# EAGLE library part ESP32-C6-DEVKITC-1-N8 (library Coert-Vonk)
Footprint of Espresiff ESP32-C6-DevKitC-1-N8 (ESP32-C6-WROOM-1-N8 ) Technical specifications: Manufacturer: Espressif SoC: ESP32-C6-WROOM-1-N8, 32-bit RISC-V, max 160 MHz Connectivity: 2.4G Wi-Fi 6, Bluetooth 5.3 LE, Zigbee 3.0 and Thread 1.3 USB-C connectors: UART0 via CP2102, Serial/JTAG Memory: 8 MB Flash, 512 kB SRAM, 320 kB ROM Mfr.#: ESP32-C6-DevKitC-1-N8, data sheet <https://mm.digikey.com/Volume0/opasdata/d220001/medias/docus/5528/ESP32-C6-DEVKITC-1-N8.pdf>, documentation <https://docs.espressif.com/projects/esp-dev-kits/en/latest/esp32c6/esp32-c6-devkitc-1/user_guide.html>, reference <https://documentation.espressif.com/esp32-c6_technical_reference_manual_en.pdf> DigiKey: 1965-ESP32-C6-DEVKITC-1-N8-ND, about $9.00
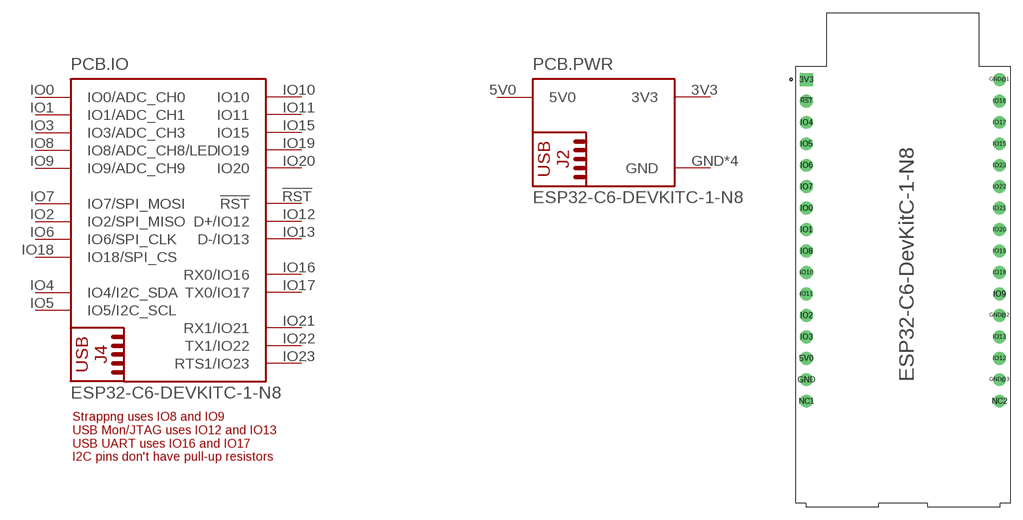
[diagram p18: symbol with the pads of MODULE_ESP32-C6-DEVKITC-1-N8; footprint MODULE_ESP32-C6-DEVKITC-1-N8]

Designator prefix PCB; gates .IO=ESP32-C6-DEVKITC-1-NB:IO .PWR=ESP32-C6-DEVKITC-1-NB:PWR

## ESP32-C6-DEVKITC-1-N8  [MODULE_ESP32-C6-DEVKITC-1-N8]
3V3  .PWR:3V3  sup
5V0  .PWR:5V0  pwr
!RST  .IO:!RST  in
GND  .PWR:GND  sup
GND@1  .PWR:GND  sup
GND@2  .PWR:GND  sup
GND@3  .PWR:GND  sup
IO0  .IO:IO0/ADC_CH0
IO1  .IO:IO1/ADC_CH1
IO2  .IO:IO2/SPI_MISO
IO3  .IO:IO3/ADC_CH3
IO4  .IO:IO4/I2C_SDA
IO5  .IO:IO5/I2C_SCL
IO6  .IO:IO6/SPI_CLK
IO7  .IO:IO7/SPI_MOSI
IO8  .IO:IO8/ADC_CH8/LED
IO9  .IO:IO9/ADC_CH9
IO10  .IO:IO10
IO11  .IO:IO11
IO12  .IO:D+/IO12  in
IO13  .IO:D-/IO13  in
IO15  .IO:IO15
IO16  .IO:RX0/IO16
IO17  .IO:TX0/IO17
IO18  .IO:IO18/SPI_CS
IO19  .IO:IO19
IO20  .IO:IO20  in
IO21  .IO:RX1/IO21
IO22  .IO:TX1/IO22
IO23  .IO:RTS1/IO23

## Footprint MODULE_ESP32-C6-DEVKITC-1-N8 (pad centres in mm)
drill 1.016 square: 3V3 -11.43,24.325
drill 1.016: 5V0 -11.43,-8.695; !RST -11.43,21.785; GND -11.43,-11.235; GND@1 11.43,24.325; GND@2 11.43,-3.615; GND@3 11.43,-11.235; IO0 -11.43,9.085; IO1 -11.43,6.545; IO2 -11.43,-3.615; IO3 -11.43,-6.155; IO4 -11.43,19.245; IO5 -11.43,16.705; IO6 -11.43,14.165; IO7 -11.43,11.625; IO8 -11.43,4.005; IO9 11.43,-1.075; IO10 -11.43,1.465; IO11 -11.43,-1.075; IO12 11.43,-8.695; IO13 11.43,-6.155; IO15 11.43,16.705; IO16 11.43,21.785; IO17 11.43,19.245; IO18 11.43,1.465; IO19 11.43,4.005; IO20 11.43,6.545; IO21 11.43,9.085; IO22 11.43,11.625; IO23 11.43,14.165; NC1 -11.43,-13.775; NC2 11.43,-13.775